# Altium footprint library EPSON FC-12M.PcbLib: 1 footprints
Each footprint in its own frame and in the unit in brackets; x right, y up, seen from the top. Pads: shape width x height; smd on the part's side, far side on the other; paste and mask are expansions set on the pad; w line width, h text height; cw(c..) or ccw(c..) is an arc to the next point about the centre after c.
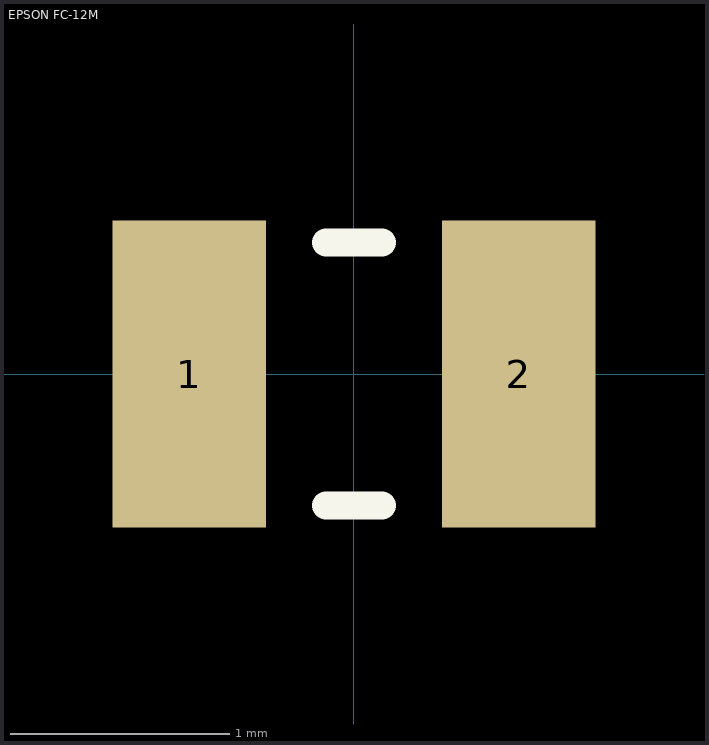
[diagram p0: the footprint, top view; thin cyan lines are the x and y axes]

## EPSON FC-12M [mm]
height 0.55
pads (2):
  rect 0.7x1.4 smd: 1(-0.75,0) 2(0.75,0)
Top Overlay:
  lines w0.127: -0.127,-0.6 0.127,-0.6 ; -0.127,0.6 0.127,0.6
3D body: height 0.6, standoff 0, extent -1.003,-0.584 0.991,0.597